# Altium footprint library PcbLib1.PcbLib: 12 footprints
Each footprint in its own frame and in the unit in brackets; x right, y up, seen from the top. Pads: shape width x height; smd on the part's side, far side on the other; paste and mask are expansions set on the pad; w line width, h text height; cw(c..) or ccw(c..) is an arc to the next point about the centre after c.
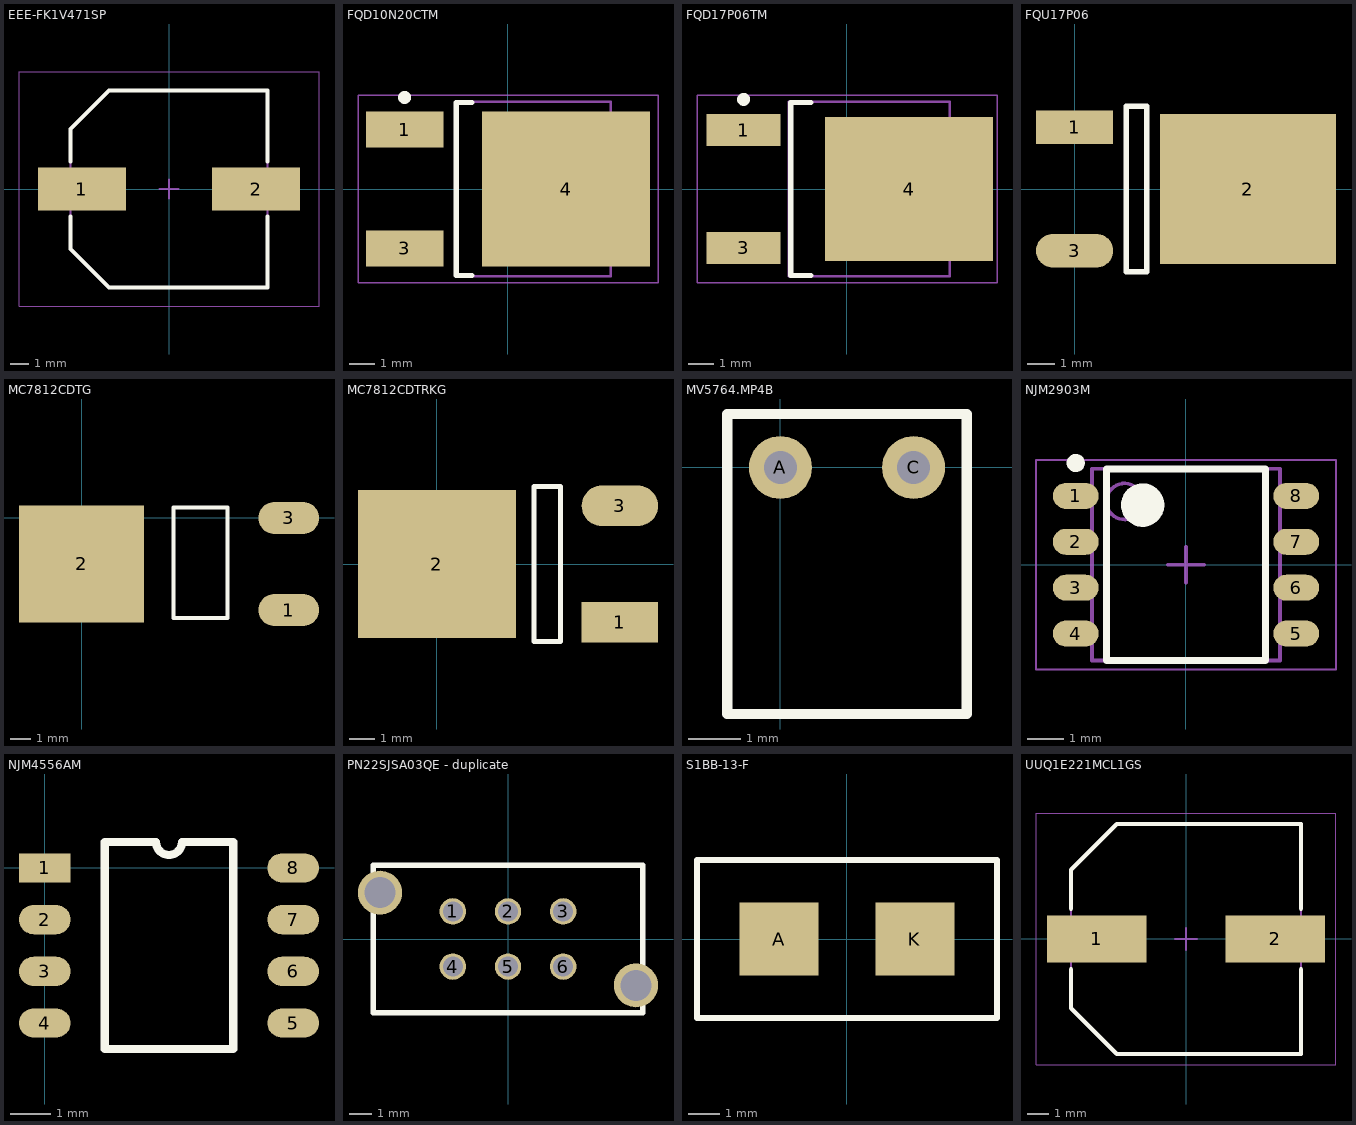
[diagram p0: the footprints below, top view; thin cyan lines are the x and y axes]

## EEE-FK1V471SP [mm] "Aluminum Electrolytic Capacitor, Body 10.30x10.30x10.50mm, IPC Low Density"
height 10.5
pads (2):
  rect 4.7x2.3 smd: 1(-4.65,0) 2(4.65,0)
Top Overlay:
  lines w0.2: -5.25,-1.45 -5.25,-3.2 -3.2,-5.25 5.25,-5.25 5.25,-1.45 ; -5.25,1.45 -5.25,3.2 -3.2,5.25 5.25,5.25 5.25,1.45
Mechanical 13:
  lines w0.1: -5.25,-3.2 -3.2,-5.25 5.25,-5.25 5.25,5.25 -3.2,5.25 -5.25,3.2 -5.25,-3.2
Mechanical 15:
  lines w0.05: -8,-6.25 -8,6.25 8,6.25 8,-6.25 -8,-6.25
  lines w0.1: -0.5,0 0.5,0 ; 0,-0.5 0,0.5
3D body: height 3.5, standoff 0, extent -5.25,-5.25 5.25,5.25
3D body: height 10.5, standoff 0, extent -5.25,-5.25 5.244,5.247

## FQD10N20CTM [mm] "D-PAK, 3-Pads, Body 6.08x6.73mm (max), IPC Medium Density"
height 2.39
pads (3):
  rect 3x1.4 smd: 1(-4,2.3) 3(-4,-2.3)
  rect 6.5x6 smd: 4(2.25,0)
Top Overlay:
  circle w0.25: c-4,3.54 r0.125
  lines w0.2: -1.4,-3.35 -2,-3.35 -2,3.35 -1.4,3.35
Mechanical 13:
  lines w0.1: -2,-3.375 -2,3.375 3.97,3.375 3.97,-3.375 -2,-3.375
Mechanical 15:
  lines w0.05: -5.8,-3.625 -5.8,3.625 5.8,3.625 5.8,-3.625 -5.8,-3.625
  lines w0.1: -0.5,0 0.5,0 ; 0,-0.5 0,0.5
3D body: height 2.39, standoff 0, extent -2,-3.375 3.97,3.375

## FQD17P06TM [mm]
height 2.39
pads (3):
  rect 2.85x1.25 smd: 1(-4,2.28) 3(-4,-2.28)
  rect 6.5x5.55 smd: 4(2.4,0)
Top Overlay:
  circle w0.25: c-4,3.465 r0.125
  lines w0.2: -1.4,-3.35 -2.175,-3.35 -2.175,3.35 -1.4,3.35
Mechanical 13:
  lines w0.1: -2.25,-3.375 -2.25,3.375 3.97,3.375 3.97,-3.375 -2.25,-3.375
Mechanical 15:
  lines w0.05: -5.8,-3.625 -5.8,3.625 5.8,3.625 5.8,-3.625 -5.8,-3.625
  lines w0.1: -0.5,0 0.5,0 ; 0,-0.5 0,0.5
3D body: height 2.39, standoff 0, extent -2.25,-3.375 3.97,3.375

## FQU17P06 [mm]
pads (3):
  rect 2.85x1.25 smd: 1(0,2.28)
  rect 6.5x5.55 smd: 2(6.4,0)
  oval 2.85x1.25 smd: 3(0,-2.28)
Top Overlay:
  lines w0.2: 1.905,-3.048 1.905,3.048 2.667,3.048 2.667,-3.048 1.905,-3.048

## MC7812CDTG [mm]
pads (3):
  oval 3x1.6 smd: 1(10.28,-4.57) 3(10.28,0)
  rect 6.2x5.8 smd: 2(0,-2.285)
Top Overlay:
  lines w0.2: 4.572,-4.953 4.572,0.508 7.239,0.508 7.239,-4.953 4.572,-4.953

## MC7812CDTRKG [mm]
pads (3):
  rect 3x1.6 smd: 1(7.18,-2.285)
  rect 6.2x5.8 smd: 2(0,0)
  oval 3x1.6 smd: 3(7.18,2.285)
Top Overlay:
  lines w0.2: 3.81,-3.048 3.81,3.048 4.845,3.048 4.845,-3.048 3.81,-3.048

## MV5764.MP4B [mm]
pads (2):
  round 1.2 hole 0.63: A(0,0) C(2.54,0)
Top Overlay:
  lines w0.2: -1.016,-4.7 -1.016,1.02 ; -1.015,-4.7 3.555,-4.7 3.555,1.02 -1.015,1.02

## NJM2903M [mm] "SOIC, 8-Leads, Body 5.00x5.00mm, Pitch 1.27mm, IPC Medium Density"
height 2
pads (8):
  oval 1.27x0.72 smd: 1(-3.05,1.905) 2(-3.05,0.635) 3(-3.05,-0.635) 4(-3.05,-1.905) 5(3.05,-1.905) 6(3.05,-0.635) 7(3.05,0.635) 8(3.05,1.905)
Top Overlay:
  circle w0.6: c-1.2,1.65 r0.3
  circle w0.25: c-3.05,2.815 r0.125
  lines w0.2: -2.2,-2.65 2.2,-2.65 2.2,2.65 -2.2,2.65 -2.2,-2.65
Mechanical 13:
  circle w0.1: c-1.7,1.75 r0.5
  lines w0.1: -2.6,-2.65 2.6,-2.65 2.6,2.65 -2.6,2.65 -2.6,-2.65
Mechanical 15:
  lines w0.05: -4.15,-2.9 4.15,-2.9 4.15,2.9 -4.15,2.9 -4.15,-2.9
  lines w0.1: -0.5,0 0.5,0 ; 0,-0.5 0,0.5
3D body: height 2, standoff 0.05, extent -2.6,-2.65 2.6,2.65

## NJM4556AM [mm]
pads (8):
  rect 1.27x0.72 smd: 1(0,0)
  oval 1.27x0.72 smd: 2(0,-1.27) 3(0,-2.54) 4(0,-3.81) 5(6.1,-3.81) 6(6.1,-2.54) 7(6.1,-1.27) 8(6.1,0)
Top Overlay:
  lines w0.2: 1.47,-4.445 1.47,0.635 2.732,0.635 ccw(c3.05,0.635) 3.367,0.635 4.63,0.635 4.63,-4.445 1.47,-4.445

## PN22SJSA03QE - duplicate [mm]
pads (8):
  round 1.2 hole 0.9: 1(-2.5,1.25) 2(0,1.25) 3(2.5,1.25) 4(-2.5,-1.25) 5(0,-1.25) 6(2.5,-1.25)
  round 2 hole 1.4: ""(-5.8,2.1) ""(5.8,-2.1)
Top Overlay:
  lines w0.254: -6.1,-3.35 -6.1,3.35 6.1,3.35 6.1,-3.35 -6.1,-3.35

## S1BB-13-F [mm]
pads (2):
  rect 2.5x2.3 smd: A(-2.15,0) K(2.15,0)
Top Overlay:
  lines w0.2: -4.75,-2.5 4.75,-2.5 4.75,2.5 -4.75,2.5 -4.75,0 -4.75,-2.5

## UUQ1E221MCL1GS [mm] "Aluminum Electrolytic Capacitor, Body 10.30x10.30x10.80mm, IPC Medium Density"
height 10.8
pads (2):
  rect 4.55x2.15 smd: 1(-4.075,0) 2(4.075,0)
Top Overlay:
  lines w0.2: -5.25,-1.375 -5.25,-3.163 -3.163,-5.25 5.25,-5.25 5.25,-1.375 ; -5.25,1.375 -5.25,3.162 -3.163,5.25 5.25,5.25 5.25,1.375
Mechanical 13:
  lines w0.1: -5.25,-3.163 -3.163,-5.25 5.25,-5.25 5.25,5.25 -3.163,5.25 -5.25,3.162 -5.25,-3.163
Mechanical 15:
  lines w0.05: -6.85,-5.75 -6.85,5.75 6.85,5.75 6.85,-5.75 -6.85,-5.75
  lines w0.1: -0.5,0 0.5,0 ; 0,-0.5 0,0.5
3D body: height 3.6, standoff 0, extent -5.25,-5.25 5.25,5.25
3D body: height 10.8, standoff 0, extent -5,-5 5,4.997